# Altium footprint library IC_Microchip_USB2514B-I-M2_eec_MFG.PcbLib: 1 footprints
Each footprint in its own frame and in the unit in brackets; x right, y up, seen from the top. Pads: shape width x height; smd on the part's side, far side on the other; paste and mask are expansions set on the pad; w line width, h text height; cw(c..) or ccw(c..) is an arc to the next point about the centre after c.
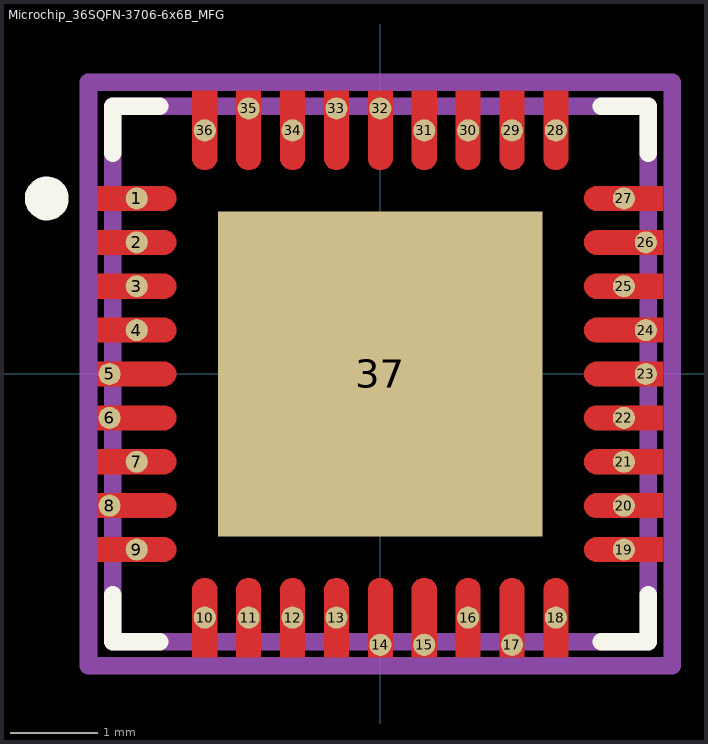
[diagram p0: the footprint, top view; thin cyan lines are the x and y axes]

## Microchip_36SQFN-3706-6x6B_MFG [mm]
pads (37):
  round 0.252 smd paste+0 mask+0: 1(-2.775,2) 2(-2.775,1.5) 3(-2.775,1) 4(-2.775,0.5) 5(-3.085,0) 6(-3.085,-0.5) 7(-2.775,-1) 8(-3.085,-1.5) 9(-2.775,-2) 10(-2,-2.775) 11(-1.5,-2.775) 12(-1,-2.775) 13(-0.5,-2.775) 14(0,-3.085) 15(0.5,-3.085) 16(1,-2.775) 17(1.5,-3.085) 18(2,-2.775) 19(2.775,-2) 20(2.775,-1.5) 21(2.775,-1) 22(2.775,-0.5) 23(3.025,0) 24(3.025,0.5) 25(2.775,1) 26(3.025,1.5) 27(2.775,2) 28(2,2.775) 29(1.5,2.775) 30(1,2.775) 31(0.5,2.775) 32(0,3.025) 33(-0.5,3.025) 34(-1,2.775) 35(-1.5,3.025) 36(-2,2.775)
  rect 3.7x3.7 smd paste+0 mask+0: 37(0,0)
Top Layer:
  region: -3.225,2.14 -2.465,2.14 -2.437,2.14 -2.386,2.119 -2.346,2.079 -2.325,2.028 -2.325,2 -2.325,1.972 -2.346,1.921 -2.386,1.881 -2.437,1.86 -2.465,1.86 -3.225,1.86
  region: -3.225,1.64 -2.465,1.64 -2.437,1.64 -2.386,1.619 -2.346,1.579 -2.325,1.528 -2.325,1.5 -2.325,1.472 -2.346,1.421 -2.386,1.381 -2.437,1.36 -2.465,1.36 -3.225,1.36
  region: -3.225,1.14 -2.465,1.14 -2.437,1.14 -2.386,1.119 -2.346,1.079 -2.325,1.028 -2.325,1 -2.325,0.972 -2.346,0.921 -2.386,0.881 -2.437,0.86 -2.465,0.86 -3.225,0.86
  region: -3.225,0.64 -2.465,0.64 -2.437,0.64 -2.386,0.619 -2.346,0.579 -2.325,0.528 -2.325,0.5 -2.325,0.472 -2.346,0.421 -2.386,0.381 -2.437,0.36 -2.465,0.36 -3.225,0.36
  region: -3.225,0.14 -2.465,0.14 -2.437,0.14 -2.386,0.119 -2.346,0.079 -2.325,0.028 -2.325,0 -2.325,-0.028 -2.346,-0.079 -2.386,-0.119 -2.437,-0.14 -2.465,-0.14 -3.225,-0.14
  region: -3.225,-0.36 -2.465,-0.36 -2.437,-0.36 -2.386,-0.381 -2.346,-0.421 -2.325,-0.472 -2.325,-0.5 -2.325,-0.528 -2.346,-0.579 -2.386,-0.619 -2.437,-0.64 -2.465,-0.64 -3.225,-0.64
  region: -3.225,-0.86 -2.465,-0.86 -2.437,-0.86 -2.386,-0.881 -2.346,-0.921 -2.325,-0.972 -2.325,-1 -2.325,-1.028 -2.346,-1.079 -2.386,-1.119 -2.437,-1.14 -2.465,-1.14 -3.225,-1.14
  region: -3.225,-1.36 -2.465,-1.36 -2.437,-1.36 -2.386,-1.381 -2.346,-1.421 -2.325,-1.472 -2.325,-1.5 -2.325,-1.528 -2.346,-1.579 -2.386,-1.619 -2.437,-1.64 -2.465,-1.64 -3.225,-1.64
  region: -3.225,-1.86 -2.465,-1.86 -2.437,-1.86 -2.386,-1.881 -2.346,-1.921 -2.325,-1.972 -2.325,-2 -2.325,-2.028 -2.346,-2.079 -2.386,-2.119 -2.437,-2.14 -2.465,-2.14 -3.225,-2.14
  region: 3.225,-2.14 2.465,-2.14 2.437,-2.14 2.386,-2.119 2.346,-2.079 2.325,-2.028 2.325,-2 2.325,-1.972 2.346,-1.921 2.386,-1.881 2.437,-1.86 2.465,-1.86 3.225,-1.86
  region: 3.225,-1.64 2.465,-1.64 2.437,-1.64 2.386,-1.619 2.346,-1.579 2.325,-1.528 2.325,-1.5 2.325,-1.472 2.346,-1.421 2.386,-1.381 2.437,-1.36 2.465,-1.36 3.225,-1.36
  region: 3.225,-1.14 2.465,-1.14 2.437,-1.14 2.386,-1.119 2.346,-1.079 2.325,-1.028 2.325,-1 2.325,-0.972 2.346,-0.921 2.386,-0.881 2.437,-0.86 2.465,-0.86 3.225,-0.86
  region: 3.225,-0.64 2.465,-0.64 2.437,-0.64 2.386,-0.619 2.346,-0.579 2.325,-0.528 2.325,-0.5 2.325,-0.472 2.346,-0.421 2.386,-0.381 2.437,-0.36 2.465,-0.36 3.225,-0.36
  region: 3.225,-0.14 2.465,-0.14 2.437,-0.14 2.386,-0.119 2.346,-0.079 2.325,-0.028 2.325,0 2.325,0.028 2.346,0.079 2.386,0.119 2.437,0.14 2.465,0.14 3.225,0.14
  region: 3.225,0.36 2.465,0.36 2.437,0.36 2.386,0.381 2.346,0.421 2.325,0.472 2.325,0.5 2.325,0.528 2.346,0.579 2.386,0.619 2.437,0.64 2.465,0.64 3.225,0.64
  region: 3.225,0.86 2.465,0.86 2.437,0.86 2.386,0.881 2.346,0.921 2.325,0.972 2.325,1 2.325,1.028 2.346,1.079 2.386,1.119 2.437,1.14 2.465,1.14 3.225,1.14
  region: 3.225,1.36 2.465,1.36 2.437,1.36 2.386,1.381 2.346,1.421 2.325,1.472 2.325,1.5 2.325,1.528 2.346,1.579 2.386,1.619 2.437,1.64 2.465,1.64 3.225,1.64
  region: 3.225,1.86 2.465,1.86 2.437,1.86 2.386,1.881 2.346,1.921 2.325,1.972 2.325,2 2.325,2.028 2.346,2.079 2.386,2.119 2.437,2.14 2.465,2.14 3.225,2.14
  region: -2.14,-3.225 -2.14,-2.465 -2.14,-2.437 -2.119,-2.386 -2.079,-2.346 -2.028,-2.325 -2,-2.325 -1.972,-2.325 -1.921,-2.346 -1.881,-2.386 -1.86,-2.437 -1.86,-2.465 -1.86,-3.225
  region: -1.64,-3.225 -1.64,-2.465 -1.64,-2.437 -1.619,-2.386 -1.579,-2.346 -1.528,-2.325 -1.5,-2.325 -1.472,-2.325 -1.421,-2.346 -1.381,-2.386 -1.36,-2.437 -1.36,-2.465 -1.36,-3.225
  region: -1.14,-3.225 -1.14,-2.465 -1.14,-2.437 -1.119,-2.386 -1.079,-2.346 -1.028,-2.325 -1,-2.325 -0.972,-2.325 -0.921,-2.346 -0.881,-2.386 -0.86,-2.437 -0.86,-2.465 -0.86,-3.225
  region: -0.64,-3.225 -0.64,-2.465 -0.64,-2.437 -0.619,-2.386 -0.579,-2.346 -0.528,-2.325 -0.5,-2.325 -0.472,-2.325 -0.421,-2.346 -0.381,-2.386 -0.36,-2.437 -0.36,-2.465 -0.36,-3.225
  region: -0.14,-3.225 -0.14,-2.465 -0.14,-2.437 -0.119,-2.386 -0.079,-2.346 -0.028,-2.325 0,-2.325 0.028,-2.325 0.079,-2.346 0.119,-2.386 0.14,-2.437 0.14,-2.465 0.14,-3.225
  region: 0.36,-3.225 0.36,-2.465 0.36,-2.437 0.381,-2.386 0.421,-2.346 0.472,-2.325 0.5,-2.325 0.528,-2.325 0.579,-2.346 0.619,-2.386 0.64,-2.437 0.64,-2.465 0.64,-3.225
  region: 0.86,-3.225 0.86,-2.465 0.86,-2.437 0.881,-2.386 0.921,-2.346 0.972,-2.325 1,-2.325 1.028,-2.325 1.079,-2.346 1.119,-2.386 1.14,-2.437 1.14,-2.465 1.14,-3.225
  region: 1.36,-3.225 1.36,-2.465 1.36,-2.437 1.381,-2.386 1.421,-2.346 1.472,-2.325 1.5,-2.325 1.528,-2.325 1.579,-2.346 1.619,-2.386 1.64,-2.437 1.64,-2.465 1.64,-3.225
  region: 1.86,-3.225 1.86,-2.465 1.86,-2.437 1.881,-2.386 1.921,-2.346 1.972,-2.325 2,-2.325 2.028,-2.325 2.079,-2.346 2.119,-2.386 2.14,-2.437 2.14,-2.465 2.14,-3.225
  region: 2.14,3.225 2.14,2.465 2.14,2.437 2.119,2.386 2.079,2.346 2.028,2.325 2,2.325 1.972,2.325 1.921,2.346 1.881,2.386 1.86,2.437 1.86,2.465 1.86,3.225
  region: 1.64,3.225 1.64,2.465 1.64,2.437 1.619,2.386 1.579,2.346 1.528,2.325 1.5,2.325 1.472,2.325 1.421,2.346 1.381,2.386 1.36,2.437 1.36,2.465 1.36,3.225
  region: 1.14,3.225 1.14,2.465 1.14,2.437 1.119,2.386 1.079,2.346 1.028,2.325 1,2.325 0.972,2.325 0.921,2.346 0.881,2.386 0.86,2.437 0.86,2.465 0.86,3.225
  region: 0.64,3.225 0.64,2.465 0.64,2.437 0.619,2.386 0.579,2.346 0.528,2.325 0.5,2.325 0.472,2.325 0.421,2.346 0.381,2.386 0.36,2.437 0.36,2.465 0.36,3.225
  region: 0.14,3.225 0.14,2.465 0.14,2.437 0.119,2.386 0.079,2.346 0.028,2.325 0,2.325 -0.028,2.325 -0.079,2.346 -0.119,2.386 -0.14,2.437 -0.14,2.465 -0.14,3.225
  region: -0.36,3.225 -0.36,2.465 -0.36,2.437 -0.381,2.386 -0.421,2.346 -0.472,2.325 -0.5,2.325 -0.528,2.325 -0.579,2.346 -0.619,2.386 -0.64,2.437 -0.64,2.465 -0.64,3.225
  region: -0.86,3.225 -0.86,2.465 -0.86,2.437 -0.881,2.386 -0.921,2.346 -0.972,2.325 -1,2.325 -1.028,2.325 -1.079,2.346 -1.119,2.386 -1.14,2.437 -1.14,2.465 -1.14,3.225
  region: -1.36,3.225 -1.36,2.465 -1.36,2.437 -1.381,2.386 -1.421,2.346 -1.472,2.325 -1.5,2.325 -1.528,2.325 -1.579,2.346 -1.619,2.386 -1.64,2.437 -1.64,2.465 -1.64,3.225
  region: -1.86,3.225 -1.86,2.465 -1.86,2.437 -1.881,2.386 -1.921,2.346 -1.972,2.325 -2,2.325 -2.028,2.325 -2.079,2.346 -2.119,2.386 -2.14,2.437 -2.14,2.465 -2.14,3.225
Top Overlay:
  circle w0.25: c-3.8,2 r0.125
  lines w0.2: -3.05,-2.515 -3.05,-3.05 -2.515,-3.05 ; -3.05,2.515 -3.05,3.05 -2.515,3.05 ; 2.515,-3.05 3.05,-3.05 3.05,-2.515 ; 2.515,3.05 3.05,3.05 3.05,2.515
Mechanical 10:
  lines w0.2: -3.325,-3.325 3.325,-3.325 3.325,3.325 -3.325,3.325 -3.325,-3.325
  text ".Designator" at 0,0.188 h1
Mechanical 12:
  lines w0.2: -3.05,-3.05 3.05,-3.05 3.05,3.05 -3.05,3.05 -3.05,-3.05
Mechanical 15:
  lines w0.1: -0.5,0 0.5,0 ; 0,-0.5 0,0.5
  lines w0.2: -3.325,-3.325 3.325,-3.325 3.325,3.325 -3.325,3.325 -3.325,-3.325
3D body "IC_Microchip_USB2514B-I-M2_eec.STEP": height 0.25, standoff 0, extent -3.325,-3.325 3.325,3.325